# EAGLE library part MOLEX_SL_35 (library molex-sl-connectors_jw)
Molex SL-Series PCB Header, 35-Pos, 0.1" (2.54mm) Centers
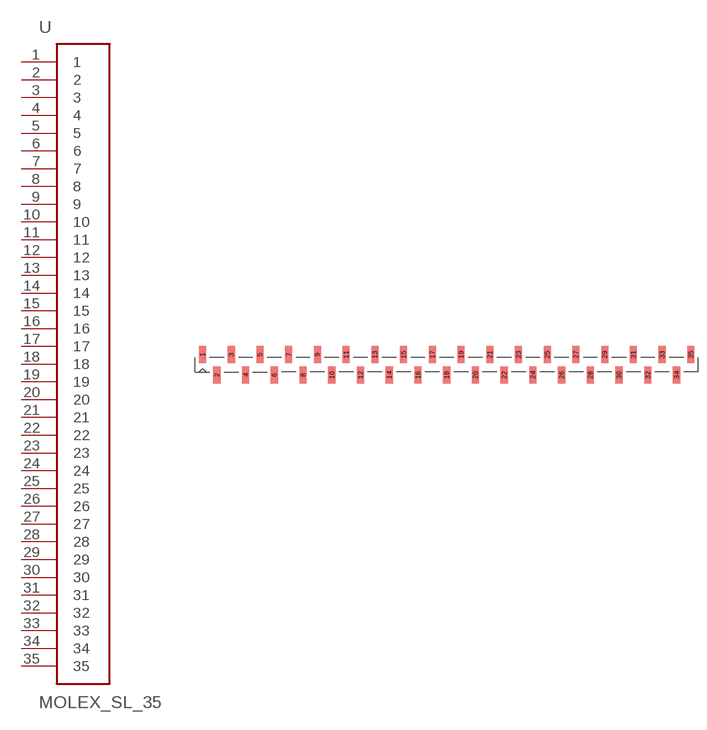
[diagram p29: symbol with the pads of SL_87898_35; footprint SL_87898_35]

Designator prefix -

## MOLEX_SL_35-87898  [SL_87898_35]
1  1
2  2
3  3
4  4
5  5
6  6
7  7
8  8
9  9
10  10
11  11
12  12
13  13
14  14
15  15
16  16
17  17
18  18
19  19
20  20
21  21
22  22
23  23
24  24
25  25
26  26
27  27
28  28
29  29
30  30
31  31
32  32
33  33
34  34
35  35

## Footprint SL_87898_35 (pad centres in mm)
SMD Vertical Header (no latch or pegs) Package also includes Pick-N-Place Cap Tube packaging w/o Pick-N-Place Cap: 87898-3521 87898-3522 87898-3524 87898-3525 87898-3526 Tube packaging w/ Pick-N-Place Cap: 87898-3531 87898-3532 87898-3534 87898-3535 87898-3536
smd 1.27 x 2.946: 1 -43.18,1.803; 2 -40.64,-1.803; 3 -38.1,1.803; 4 -35.56,-1.803; 5 -33.02,1.803; 6 -30.48,-1.803; 7 -27.94,1.803; 8 -25.4,-1.803; 9 -22.86,1.803; 10 -20.32,-1.803; 11 -17.78,1.803; 12 -15.24,-1.803; 13 -12.7,1.803; 14 -10.16,-1.803; 15 -7.62,1.803; 16 -5.08,-1.803; 17 -2.54,1.803; 18 0,-1.803; 19 2.54,1.803; 20 5.08,-1.803; 21 7.62,1.803; 22 10.16,-1.803; 23 12.7,1.803; 24 15.24,-1.803; 25 17.78,1.803; 26 20.32,-1.803; 27 22.86,1.803; 28 25.4,-1.803; 29 27.94,1.803; 30 30.48,-1.803; 31 33.02,1.803; 32 35.56,-1.803; 33 38.1,1.803; 34 40.64,-1.803; 35 43.18,1.803